# Altium schematic symbol library myschemlib.SchLib: 8 symbols
Pins are listed as number, name and electrical type; pins without a type are passive.

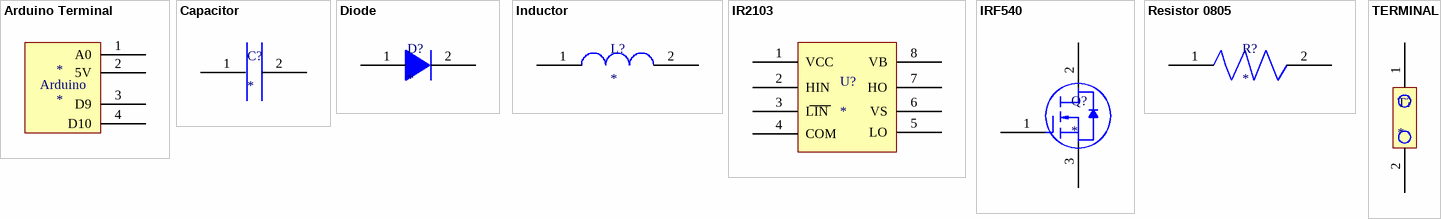
[diagram p0: symbols Arduino Terminal to TERMINAL]

## Arduino Terminal
designator *
footprint ARDUINO TERMINAL
pins: 1 A0, 2 5V, 3 D9, 4 D10
text: Arduino

## Capacitor
designator C?
footprint capacitor (100 uF)
pins: 1, 2

## Diode
designator D?
footprint 1N4148TA (bootstrap for IR2103)
pins: 1, 2

## Inductor
designator L?
footprint Inductor
pins: 1, 2

## IR2103
designator U?
footprint IR2103 (to control 2 PWM output at the same time)
pins: 1 VCC, 2 HIN, 3 LIN, 4 COM, 5 LO, 6 VS, 7 HO, 8 VB

## IRF540
designator Q?
footprint IRF540 (100V Rds 0.077 Qgmax 72nC Qgs 11nC Qgd 32nC)
pins: 1 G, 2 D, 3 S

## Resistor 0805
designator R?
footprint Resistor (100 ohms, bigger resistor in the kit)
pins: 1, 2

## TERMINAL
designator T?
footprint SOURCE TERMINAL
pins: 1, 2